# Altium footprint library Y001_Artix7_USB3.0_D0.PcbLib: 33 footprints (part 3 of 3)
Each footprint in its own frame and in the unit in brackets; x right, y up, seen from the top. Pads: shape width x height; smd on the part's side, far side on the other; paste and mask are expansions set on the pad; w line width, h text height; cw(c..) or ccw(c..) is an arc to the next point about the centre after c.
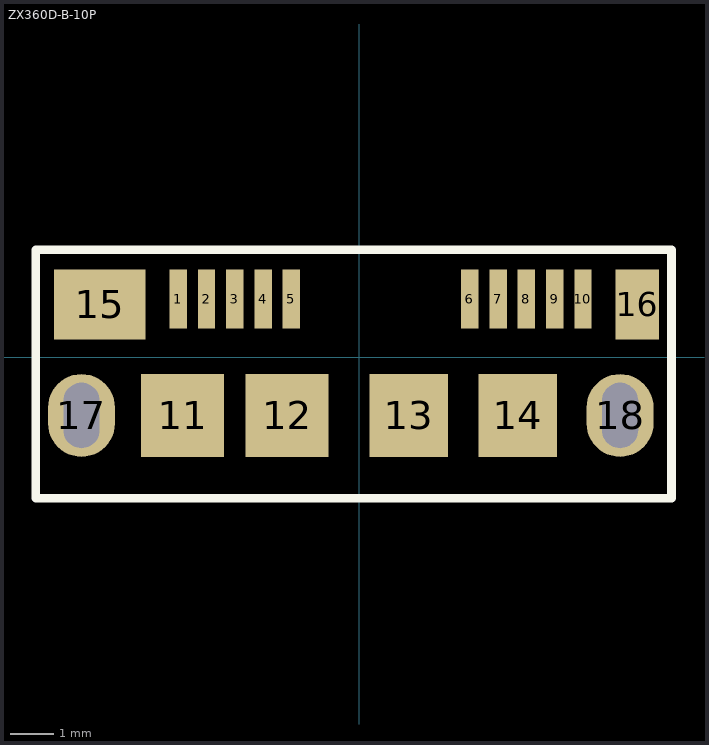
[diagram p2: the footprint, top view; thin cyan lines are the x and y axes]

## ZX360D-B-10P [mm]
pads (18):
  rect 0.4x1.35 smd: 1(-4.164,1.338) 2(-3.514,1.338) 3(-2.864,1.338) 4(-2.214,1.338) 5(-1.564,1.338) 6(2.536,1.338) 7(3.186,1.338) 8(3.836,1.338) 9(4.486,1.338) 10(5.136,1.338)
  rect 1.9x1.9 smd: 11(-4.064,-1.338) 12(-1.664,-1.338)
  rect 1.8x1.9 smd: 13(1.136,-1.338) 14(3.636,-1.338)
  rect 2.1x1.6 smd: 15(-5.964,1.213)
  rect 1x1.6 smd: 16(6.386,1.213)
  oval 1.54x1.9 hole 0.825 slot 1.5 at 90 deg: 17(-6.386,-1.338) 18(5.989,-1.338)
Top Overlay:
  lines w0.2: -7.436,-3.243 7.169,-3.243 7.169,2.472 -7.436,2.472 -7.436,-3.243
3D body: height 2.83, standoff -0.72, extent -6.983,-4.017 6.589,1.583